# Altium integrated library CERAMIC-CAP-103-1KV.IntLib: 1 symbol
Pins are listed as number, name and electrical type; pins without a type are passive.

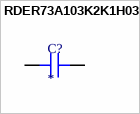
[diagram p0: symbol RDER73A103K2K1H03B]

## RDER73A103K2K1H03B
designator C?
Lead Capacitor X7R_EIA_ with Capacitance: 10000pF and Rated Voltage: 1000Vdc; MF: Murata; MP: RDER73A103K2K1H03B; Value: *; SnapEDA_Link: https://www.snapeda.com/parts/RDER73A103K2K1H03B/Murata/view-part/4546147/?ref=snap; Price: None; Availability: Unavailable; Package: Radial Murata
footprint CAP_RDER73A103K2K1H03B
pins: 1, 2